# EAGLE library part LSM330DL (library lib_stankus)
ST LSM330DL inertial sensor Farnell #2056736
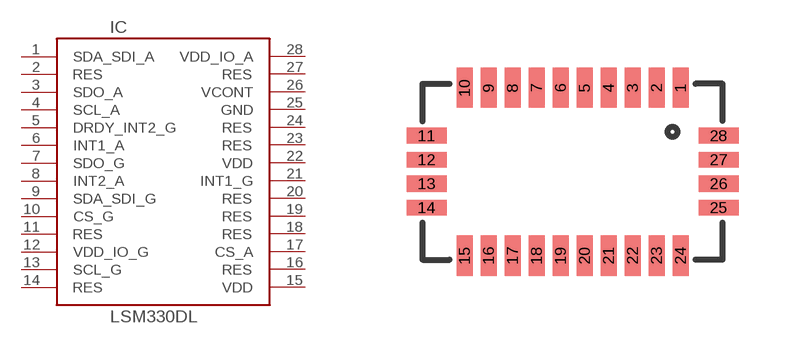
[diagram p24: symbol with the pads of LGA28L; footprint LGA28L]

Designator prefix IC

## LSM330DL-LGA28L  [LGA28L]
1  SDA_SDI_A  pas
2  RES  pas
3  SDO_A  pas
4  SCL_A  pas
5  DRDY_INT2_G  pas
6  INT1_A  pas
7  SDO_G  pas
8  INT2_A  pas
9  SDA_SDI_G  pas
10  CS_G  pas
11  RES  pas
12  VDD_IO_G  pas
13  SCL_G  pas
14  RES  pas
15  VDD  pas
16  RES  pas
17  CS_A  pas
18  RES  pas
19  RES  pas
20  RES  pas
21  INT1_G  pas
22  VDD  pas
23  RES  pas
24  RES  pas
25  GND  pas
26  VCONT  pas
27  RES  pas
28  VDD_IO_A  pas

## Footprint LGA28L (pad centres in mm)
LGA28L
smd 0.4 x 1: 1 2.7,2.1; 2 2.1,2.1; 3 1.5,2.1; 4 0.9,2.1; 5 0.3,2.1; 6 -0.3,2.1; 7 -0.9,2.1; 8 -1.5,2.1; 9 -2.1,2.1; 10 -2.7,2.1; 15 -2.7,-2.1; 16 -2.1,-2.1; 17 -1.5,-2.1; 18 -0.9,-2.1; 19 -0.3,-2.1; 20 0.3,-2.1; 21 0.9,-2.1; 22 1.5,-2.1; 23 2.1,-2.1; 24 2.7,-2.1
smd 1 x 0.4: 11 -3.65,0.9; 12 -3.65,0.3; 13 -3.65,-0.3; 14 -3.65,-0.9; 25 3.65,-0.9; 26 3.65,-0.3; 27 3.65,0.3; 28 3.65,0.9